# Altium footprint library CAPC100X50X60L20N.PcbLib: 1 footprints
Each footprint in its own frame and in the unit in brackets; x right, y up, seen from the top. Pads: shape width x height; smd on the part's side, far side on the other; paste and mask are expansions set on the pad; w line width, h text height; cw(c..) or ccw(c..) is an arc to the next point about the centre after c.
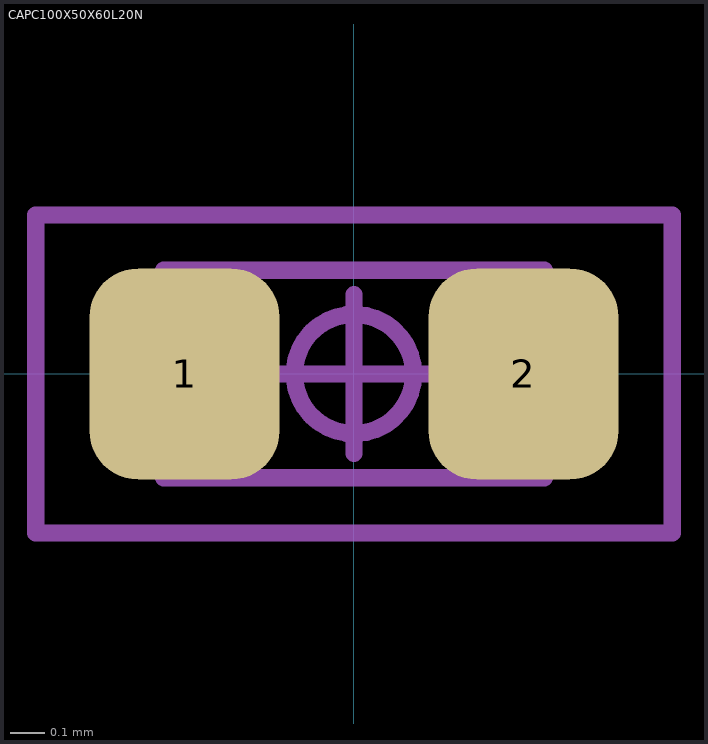
[diagram p0: the footprint, top view; thin cyan lines are the x and y axes]

## CAPC100X50X60L20N [mm] "Capacitor, Chip; 1.00 mm L X 0.50 mm W X 0.60 mm H body"
height 0.6
pads (2):
  rrect51% 0.55x0.61 smd mask+0.05: 1(-0.49,0) 2(0.49,0)
Mechanical 11:
  lines w0.05: -0.55,-0.3 -0.55,0.3 0.55,0.3 0.55,-0.3 -0.55,-0.3
Mechanical 15:
  circle w0.05: c0,0 r0.172
  lines w0.05: -0.23,0 0.23,0 ; 0,-0.23 0,0.23 ; -0.92,-0.46 -0.92,0.46 0.92,0.46 0.92,-0.46 -0.92,-0.46
3D body "CAPC100X50X60L20.STEP": height 0.6, standoff 0, extent -0.55,-0.3 0.55,0.3